# Altium footprint library ASVMB-100.000MHZ-LY-T.PcbLib: 1 footprints
Each footprint in its own frame and in the unit in brackets; x right, y up, seen from the top. Pads: shape width x height; smd on the part's side, far side on the other; paste and mask are expansions set on the pad; w line width, h text height; cw(c..) or ccw(c..) is an arc to the next point about the centre after c.
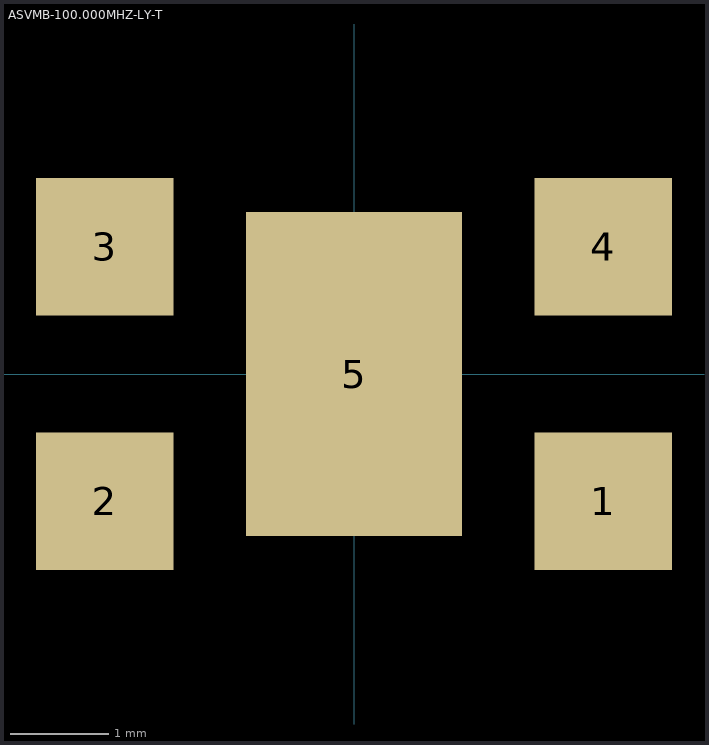
[diagram p0: the footprint, top view; thin cyan lines are the x and y axes]

## ASVMB-100.000MHZ-LY-T [mm]
pads (5):
  rect 1.4x1.4 smd: 1(2.54,-1.295) 2(-2.54,-1.295) 3(-2.54,1.295) 4(2.54,1.295)
  rect 2.2x3.3 smd: 5(0,0)